# Altium schematic symbol library Taiyo_3u3.Schlib: 1 symbol
Pins are listed as number, name and electrical type; pins without a type are passive.

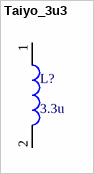
[diagram p0: symbol Taiyo_3u3]

## Taiyo_3u3
designator L?, comment 3.3u
3.3uH 2.6A Inductor
pins: 1, 2